# Altium footprint library Logic.PcbLib: 1 footprints
Each footprint in its own frame and in the unit in brackets; x right, y up, seen from the top. Pads: shape width x height; smd on the part's side, far side on the other; paste and mask are expansions set on the pad; w line width, h text height; cw(c..) or ccw(c..) is an arc to the next point about the centre after c.
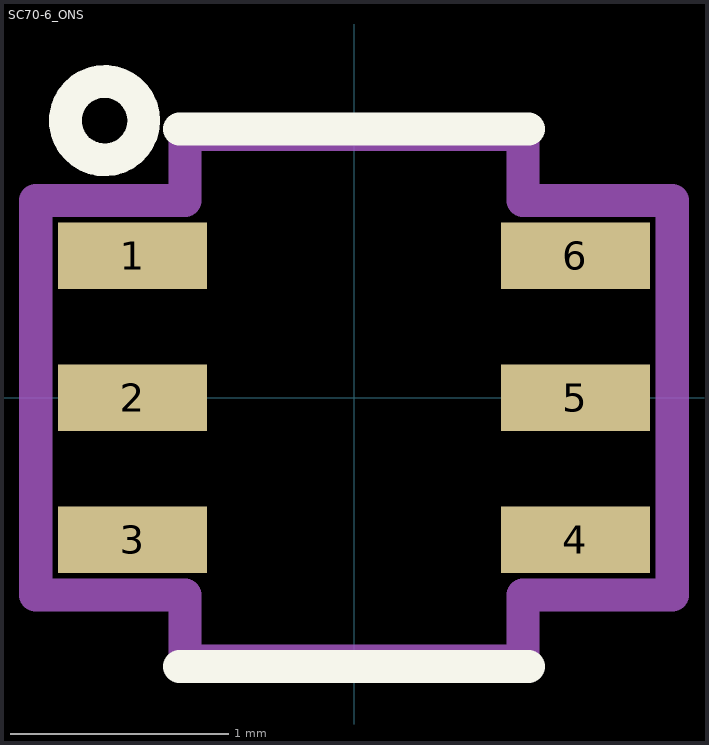
[diagram p0: the footprint, top view; thin cyan lines are the x and y axes]

## SC70-6_ONS [mil]
pads (6):
  rect 26.91x12 smd paste+0 mask+0: 1(-39.95,25.59) 2(-39.95,0) 3(-39.95,-25.59) 4(39.95,-25.59) 5(39.95,0) 6(39.95,25.59)
Top Overlay:
  circle w5.91: c-45,50 r7.07
  lines w6: -31.5,-48.5 31.5,-48.5 ; -31.5,48.5 31.5,48.5
Mechanical 15:
  lines w6: -57.41,-35.59 -57.41,35.59 -30.5,35.59 -30.5,47.5 30.5,47.5 30.5,35.59 57.41,35.59 57.41,-35.59 30.5,-35.59 30.5,-47.5 -30.5,-47.5 -30.5,-35.59 -57.41,-35.59
3D body "SC70-6_ONS.step": height 43.11, standoff 0, extent -47.52,-43.5 47.52,43.5